# Altium footprint library B4BXHA.PcbLib: 1 footprints
Each footprint in its own frame and in the unit in brackets; x right, y up, seen from the top. Pads: shape width x height; smd on the part's side, far side on the other; paste and mask are expansions set on the pad; w line width, h text height; cw(c..) or ccw(c..) is an arc to the next point about the centre after c.
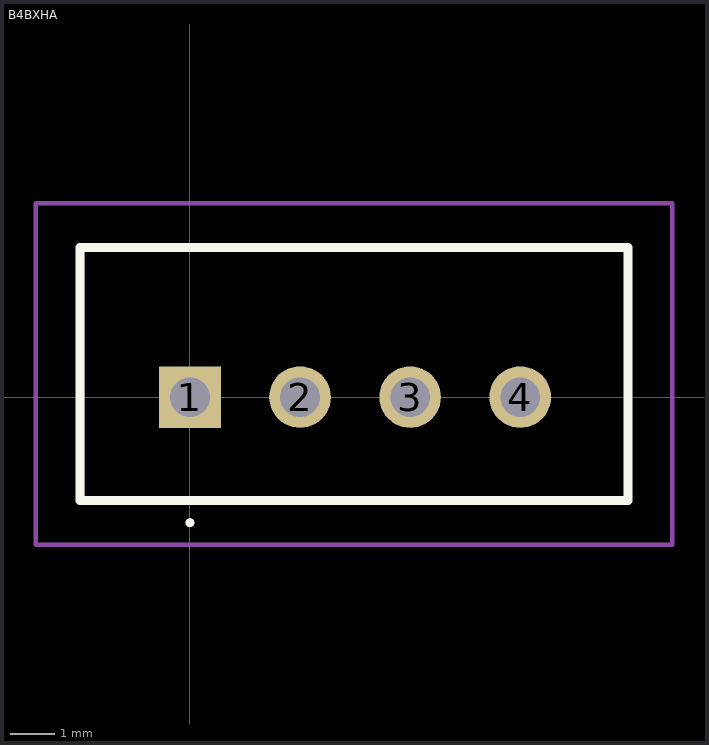
[diagram p0: the footprint, top view; thin cyan lines are the x and y axes]

## B4BXHA [mm]
pads (4):
  rect 1.4x1.4 hole 0.9: 1(0,0)
  round 1.4 hole 0.9: 2(2.5,0) 3(5,0) 4(7.5,0)
Top Overlay:
  lines w0.1: 0,-2.9 0,-2.9 ; 0,-2.9 ccw(c0,-2.85) 0,-2.8 ; 0,-2.9 cw(c0,-2.85) 0,-2.8 ; 0,-2.8 0,-2.8
  lines w0.2: -2.5,-2.35 9.95,-2.35 9.95,3.4 -2.5,3.4 -2.5,-2.35
Mechanical 15:
  lines w0.1: -2.45,-2.35 9.95,-2.35 9.95,3.4 -2.45,3.4 -2.45,-2.35
Mechanical 20:
  lines w0.1: -3.5,-3.35 10.95,-3.35 10.95,4.4 -3.5,4.4 -3.5,-3.35